# Altium schematic symbol library Schematic-Components.SchLib: 19 symbols
Pins are listed as number, name and electrical type; pins without a type are passive.

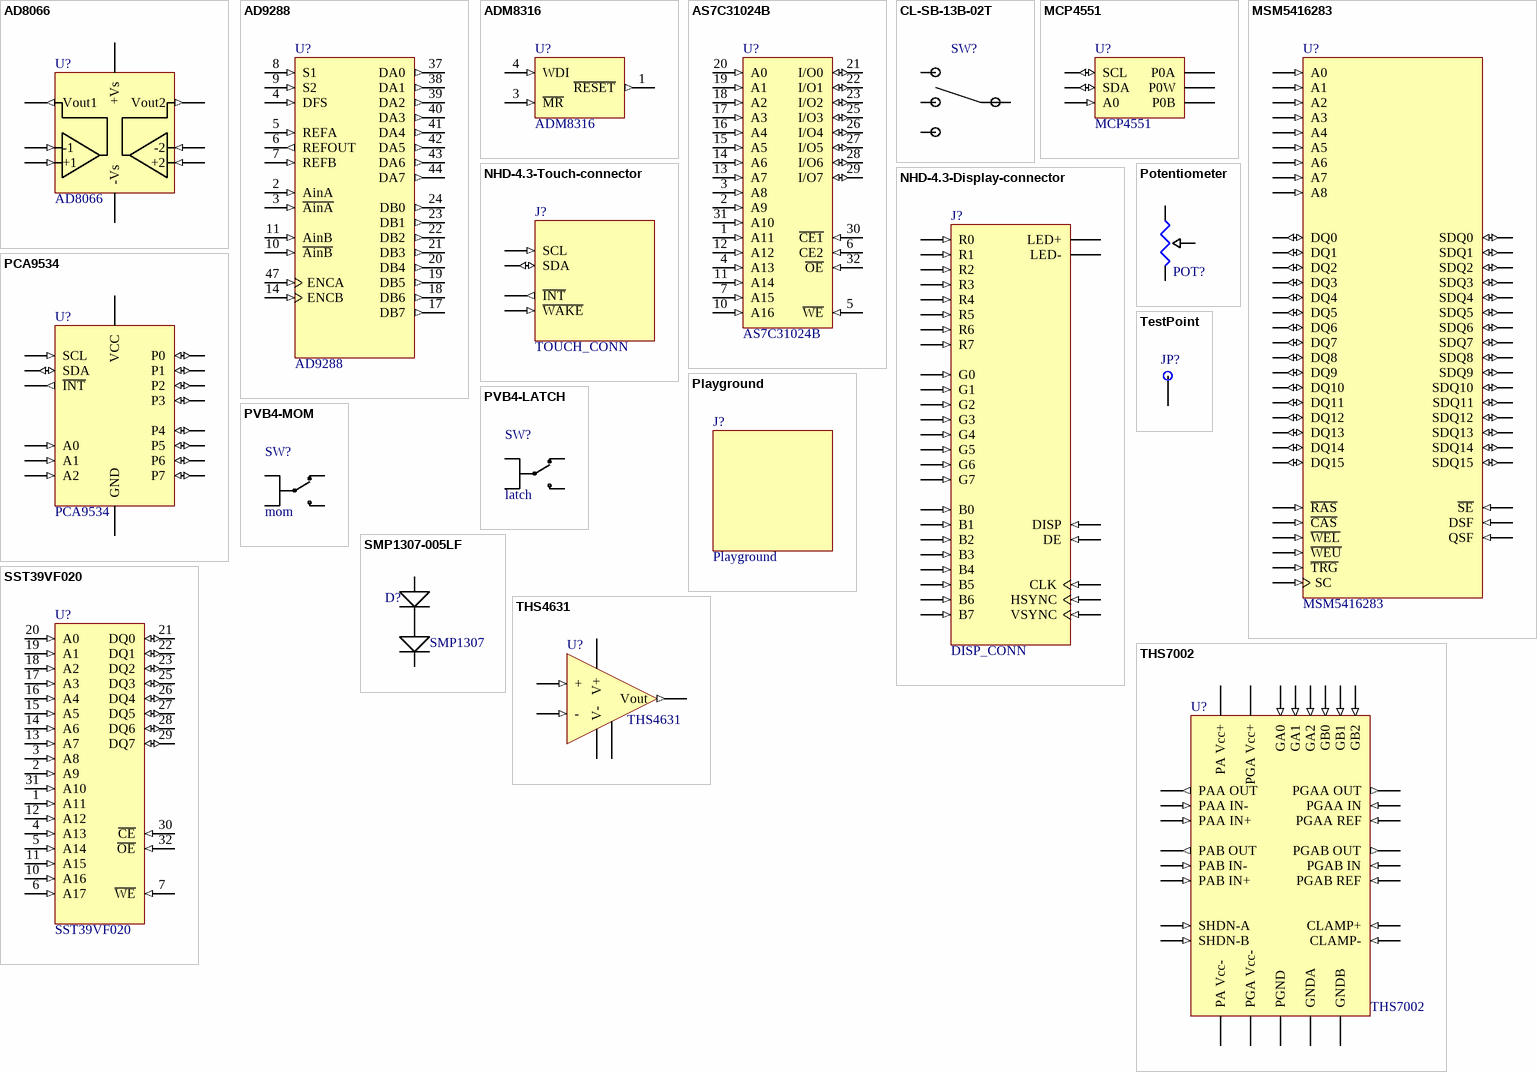
[diagram p0: symbols AD8066 to THS7002]

## AD8066
designator U?
footprint MSOP-8
pins: 1 Vout1 (out), 2 -1 (in), 3 +1 (in), 4 -Vs (power), 5 +2 (in), 6 -2 (in), 7 Vout2 (out), 8 +Vs (power)

## AD9288
designator U?
Dual Channel ADC
footprint QFP24-7x7
pins: 1 AGND (power) hidden to AGND, 2 AinA (in), 3 ~{AinA} (in), 4 DFS (in), 5 REFA (in), 6 REFOUT (out), 7 REFB (in), 8 S1 (in), 9 S2 (in), 10 ~{AinB} (in), 11 AinB (in), 12 AGND (power) hidden to AGND, 13 VD (power) hidden to Vcc33, 14 ENCB (in), 15 VDD (power) hidden to Vcc33, 16 AGND (power) hidden to AGND, 17 DB7 (out), 18 DB6 (out), 19 DB5 (out), 20 DB4 (out), 21 DB3 (out), 22 DB2 (out), 23 DB1 (out), 24 DB0 (out), 27 AGND (power) hidden to AGND, 28 VDD (power) hidden to Vcc33, 29 AGND (power) hidden to AGND, 30 VD (power) hidden to Vcc33, 31 VD (power) hidden to Vcc33, 32 AGND (power) hidden to AGND, 33 VDD (power) hidden to Vcc33, 34 AGND (power) hidden to AGND, 37 DA0 (out), 38 DA1 (out), 39 DA2 (out), 40 DA3 (out), 41 DA4 (out), 42 DA5 (out), 43 DA6 (out), 44 DA7 (out), 45 AGND (power) hidden to AGND, 46 VDD (power) hidden to Vcc33, 47 ENCA (in), 48 VD (power) hidden to Vcc33

## ADM8316
designator U?
Analog Devices Watchdog Timer and Reset IC
footprint SOT-23-5
pins: 1 ~{RESET} (out), 2 GND (power) hidden to GND, 3 ~{MR} (in), 4 WDI (in), 5 VCC (power) hidden to Vcc33

## AS7C31024B
designator U?
Alliance 1 Mbit (128k x 8bit) SRAM
footprint TSOP-32 8x20mm (Use with AS7C31024B)
pins: 1 A11 (in), 2 A9 (in), 3 A8 (in), 4 A13 (in), 5 ~{WE} (in), 6 CE2 (in), 7 A15 (in), 8 VCC (power) hidden to Vcc33, 10 A16 (in), 11 A14 (in), 12 A12 (in), 13 A7 (in), 14 A6 (in), 15 A5 (in), 16 A4 (in), 17 A3 (in), 18 A2 (in), 19 A1 (in), 20 A0 (in), 21 I/O0 (io), 22 I/O1 (io), 23 I/O2 (io), 24 GND (power) hidden to GND, 25 I/O3 (io), 26 I/O4 (io), 27 I/O5 (io), 28 I/O6 (io), 29 I/O7 (io), 30 ~{CE1} (in), 31 A10 (in), 32 ~{OE} (in)

## CL-SB-13B-02T
designator SW?  (value not drawn)
footprint SP3T
pins: 1, 2, 3, 4

## MCP4551
designator U?
footprint MSOP-8
pins: 1 A0 (in), 2 SCL (io), 3 SDA (io), 4 Vss (power) hidden to GND, 5 P0A, 6 P0W, 7 P0B, 8 Vdd (power) hidden to Vcc33

## MSM5416283
designator U?
256K x 16bit VRAM
footprint SSOP64
pins: 1 Vcc (power) hidden to Vcc5+, 2 ~{TRG} (in), 3 Vss (power) hidden to GND, 4 SDQ0 (io), 5 DQ0 (io), 6 SDQ1 (io), 7 DQ1 (io), 8 Vcc (power) hidden to Vcc5+, 9 SDQ2 (io), 10 DQ2 (io), 11 SDQ3 (io), 12 DQ3 (io), 13 Vss (power) hidden to GND, 14 SDQ4 (io), 15 DQ4 (io), 16 SDQ5 (io), 17 DQ5 (io), 18 Vcc (power) hidden to Vcc5+, 19 SDQ6 (io), 20 DQ6 (io), 21 SDQ7 (io), 22 DQ7 (io), 23 Vss (power) hidden to GND, 24 ~{WEL} (in), 25 ~{WEU} (in), 26 ~{RAS} (in), 27 A8 (in), 28 A7 (in), 29 A6 (in), 30 A5 (in), 31 A4 (in), 32 Vcc (power) hidden to Vcc5+, 33 Vss (power) hidden to GND, 34 A3 (in), 35 A2 (in), 36 A1 (in), 37 A0 (in), 38 QSF (in), 39 ~{CAS} (in), 41 DSF (in), 42 Vss (power) hidden to GND, 43 DQ8 (io), 44 SDQ8 (io), 45 DQ9 (io), 46 SDQ9 (io), 47 Vcc (power) hidden to Vcc5+, 48 DQ10 (io), 49 SDQ10 (io), 50 DQ11 (io), 51 SDQ11 (io), 52 Vss (power) hidden to GND, 53 DQ12 (io), 54 SDQ12 (io), 55 DQ13 (io), 56 SDQ13 (io), 57 Vcc (power) hidden to Vcc5+, 58 DQ14 (io), 59 SDQ14 (io), 60 DQ15 (io), 61 SDQ15 (io), 62 Vss (power) hidden to GND, 63 ~{SE} (in), 64 SC (in)

## NHD-4.3-Display-connector
designator J?, comment DISP_CONN
footprint MOLEX-40
pins: 1 LED- (power), 2 LED+ (power), 3 GND (power) hidden to GND, 4 VDD (power) hidden to Vcc33, 5 R0 (in), 6 R1 (in), 7 R2 (in), 8 R3 (in), 9 R4 (in), 10 R5 (in), 11 R6 (in), 12 R7 (in), 13 G0 (in), 14 G1 (in), 15 G2 (in), 16 G3 (in), 17 G4 (in), 18 G5 (in), 19 G6 (in), 20 G7 (in), 21 B0 (in), 22 B1 (in), 23 B2 (in), 24 B3 (in), 25 B4 (in), 26 B5 (in), 27 B6 (in), 28 B7 (in), 29 GND (power) hidden to GND, 30 CLK (in), 31 DISP (in), 32 HSYNC (in), 33 VSYNC (in), 34 DE (in), 36 GND (power) hidden to GND

## NHD-4.3-Touch-connector
designator J?, comment TOUCH_CONN
footprint MOLEX-6
pins: 1 VDD (power) hidden to Vcc33, 2 GND (power) hidden to GND, 3 SCL (in), 4 SDA (io), 5 ~{INT} (out), 6 ~{WAKE} (in)

## PCA9534
designator U?
footprint TSSOP16
pins: 1 A0 (in), 2 A1 (in), 3 A2 (in), 4 P0 (io), 5 P1 (io), 6 P2 (io), 7 P3 (io), 8 GND (power), 9 P4 (io), 10 P5 (io), 11 P6 (io), 12 P7 (io), 13 ~{INT} (out), 14 SCL (in), 15 SDA (io), 16 VCC (power)

## Playground
designator J?
footprint 20x20
pins: PGGND GND (power) hidden to GND, PGVCC Vcc (power) hidden to Vcc33

## Potentiometer
designator POT?  (value not drawn)
footprint POT-3
pins: 1, 2, 3

## PVB4-LATCH
designator SW?, comment latch
footprint SPDT
pins: 1, 2, C, C

## PVB4-MOM
designator SW?, comment mom
footprint SPDT
pins: 1, 2, C, C

## SMP1307-005LF
designator D?, comment SMP1307
footprint SOT-23-3
pins: 1, 2, 3

## SST39VF020
designator U?
Microchip 2 Mbit (256k x 8 bit) Multi-Purpose Flash
footprint TSOP-32 8x14mm (Use with SST39VF020)
pins: 1 A11 (in), 2 A9 (in), 3 A8 (in), 4 A13 (in), 5 A14 (in), 6 A17 (in), 7 ~{WE} (in), 8 VCC (power) hidden to Vcc33, 10 A16 (in), 11 A15 (in), 12 A12 (in), 13 A7 (in), 14 A6 (in), 15 A5 (in), 16 A4 (in), 17 A3 (in), 18 A2 (in), 19 A1 (in), 20 A0 (in), 21 DQ0 (io), 22 DQ1 (io), 23 DQ2 (io), 24 GND (power) hidden to GND, 25 DQ3 (io), 26 DQ4 (io), 27 DQ5 (io), 28 DQ6 (io), 29 DQ7 (io), 30 ~{CE} (in), 31 A10 (in), 32 ~{OE} (in)

## TestPoint
designator JP?  (value not drawn)
footprint TestPoint
pins: 1

## THS4631
designator U?
footprint DGN-8
pins: 2 - (in), 3 + (in), 4 V- (power), 6 Vout (out), 7 V+ (power), PGND (power)

## THS7002
designator U?
footprint SOP28
pins: 1 GNDA (power), 2 PGAA REF (in), 3 PGAA IN (in), 4 PAA OUT (out), 5 PAA IN- (in), 6 PAA IN+ (in), 7 PA Vcc- (power), 8 PA Vcc+ (power), 9 PAB IN+ (in), 10 PAB IN- (in), 11 PAB OUT (out), 12 PGAB IN (in), 13 PGAB REF (in), 14 GNDB (power), 15 GB0 (in), 16 GB1 (in), 17 GB2 (in), 18 SHDN-B (in), 19 PGAB OUT (out), 20 CLAMP+ (in), 21 PGA Vcc+ (power), 22 PGA Vcc- (power), 23 CLAMP- (in), 24 PGAA OUT (out), 25 SHDN-A (in), 26 GA2 (in), 27 GA1 (in), 28 GA0 (in), PGND (power)